# EAGLE library part MMA8452Q (library Accelerometer_MMA8452Q_Device)
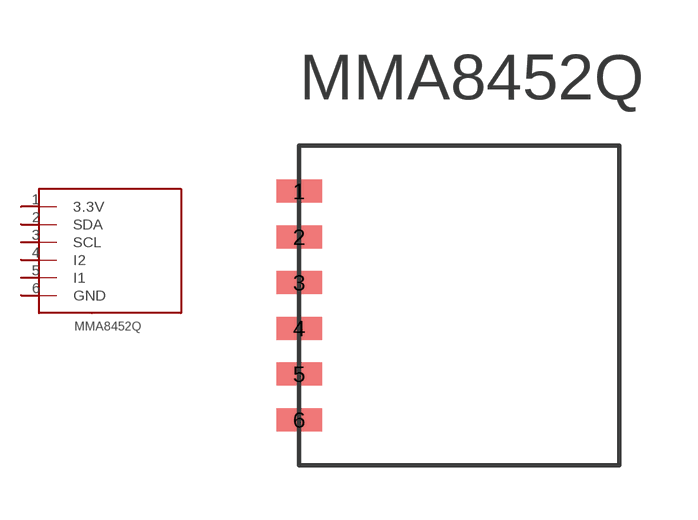
[diagram p0: symbol with the pads of MMA8452Q; footprint MMA8452Q]

Designator prefix -

## MMA8452Q  [MMA8452Q]
1  3.3V
2  SDA
3  SCL
4  I2
5  I1
6  GND

## Footprint MMA8452Q (pad centres in mm)
smd 1.27 x 0.635: 1 -5.08,2.54; 2 -5.08,1.27; 3 -5.08,0; 4 -5.08,-1.27; 5 -5.08,-2.54; 6 -5.08,-3.81